# Altium schematic symbol library BQ24773RUY.SchLib: 1 symbol
Pins are listed as number, name and electrical type; pins without a type are passive.

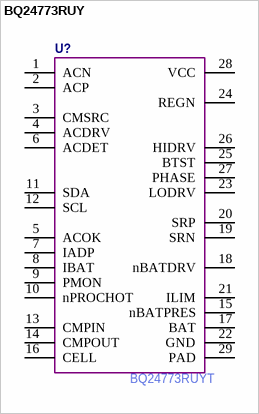
[diagram p0: symbol BQ24773RUY]

## BQ24773RUY
designator U?  Manufacturer Part Number: BQ24773RUYT  (hidden comment: *)
pins: 1 ACN, 2 ACP, 3 CMSRC, 4 ACDRV, 5 ACOK, 6 ACDET, 7 IADP, 8 IBAT, 9 PMON, 10 nPROCHOT, 11 SDA, 12 SCL, 13 CMPIN, 14 CMPOUT, 15 nBATPRES, 16 CELL, 17 BAT, 18 nBATDRV, 19 SRN, 20 SRP, 21 ILIM, 22 GND, 23 LODRV, 24 REGN, 25 BTST, 26 HIDRV, 27 PHASE, 28 VCC, 29 PAD